# EAGLE library part 74HC595 (library CanCubeSat)
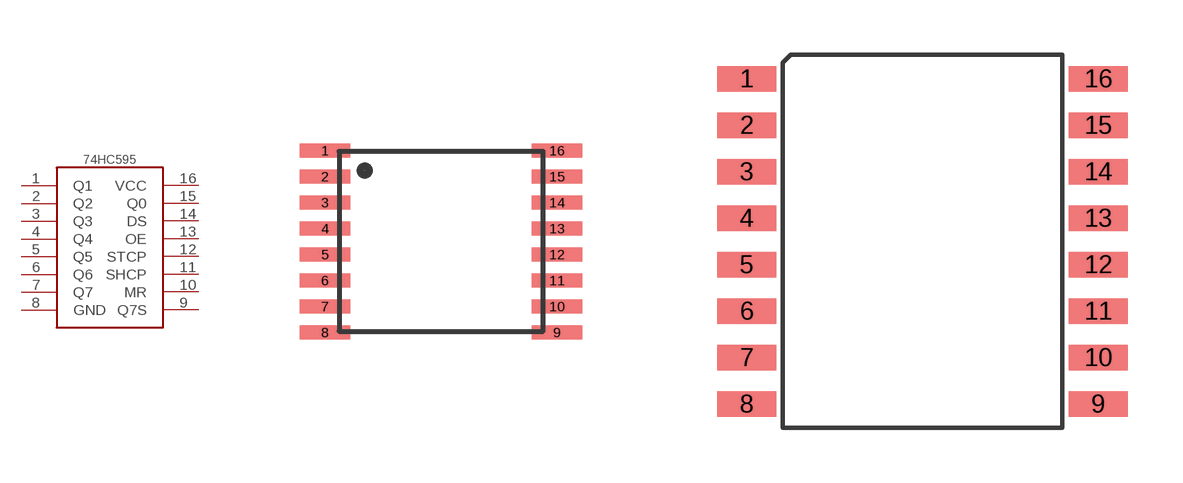
[diagram p10: symbol with the pads of TSSOP16; footprints TSSOP16, SO16]

Designator prefix -

## 74HC595  [TSSOP16]
1  Q1
2  Q2
3  Q3
4  Q4
5  Q5
6  Q6
7  Q7
8  GND
9  Q7S
10  MR
11  SHCP
12  STCP
13  OE
14  DS
15  Q0
16  VCC

## 74HC595SO16  [SO16]
Pads as for TSSOP16

## 74HC595SOIC16  [SOIC16]
Pads as for TSSOP16

## Footprint TSSOP16 (pad centres in mm)
smd 1.26 x 0.36: 1 -2.9,2.275; 2 -2.9,1.625; 3 -2.9,0.975; 4 -2.9,0.325; 5 -2.9,-0.325; 6 -2.9,-0.975; 7 -2.9,-1.625; 8 -2.9,-2.275; 9 2.9,-2.275; 10 2.9,-1.625; 11 2.9,-0.975; 12 2.9,-0.325; 13 2.9,0.325; 14 2.9,0.975; 15 2.9,1.625; 16 2.9,2.275

## Footprint SO16 (pad centres in mm)
smd 1.6 x 0.7: 1 -4.8,4.445; 2 -4.8,3.175; 3 -4.8,1.905; 4 -4.8,0.635; 5 -4.8,-0.635; 6 -4.8,-1.905; 7 -4.8,-3.175; 8 -4.8,-4.445; 9 4.8,-4.445; 10 4.8,-3.175; 11 4.8,-1.905; 12 4.8,-0.635; 13 4.8,0.635; 14 4.8,1.905; 15 4.8,3.175; 16 4.8,4.445

## Footprint SOIC16 (pad centres in mm)
smd 1.27 x 0.76: 1 -2.86,4.445; 2 -2.86,3.175; 3 -2.86,1.905; 4 -2.86,0.635; 5 -2.86,-0.635; 6 -2.86,-1.905; 7 -2.86,-3.175; 8 -2.86,-4.445; 9 2.86,-4.445; 10 2.86,-3.175; 11 2.86,-1.905; 12 2.86,-0.635; 13 2.86,0.635; 14 2.86,1.905; 15 2.86,3.175; 16 2.86,4.445